# EAGLE library part ADS1115_16_BIT_ADC_4_CHANNEL_WITH_PROGRAMMABLE_GAIN_AMPLIFIER (library Adafruit)
ADS1115 16-Bit ADC - 4 Channel with Programmable Gain Amplifier ADS1115 16-Bit ADC - 4 Channel with Programmable Gain Amplifier Further information:http://adafru.it/1085 Cost:$14.95
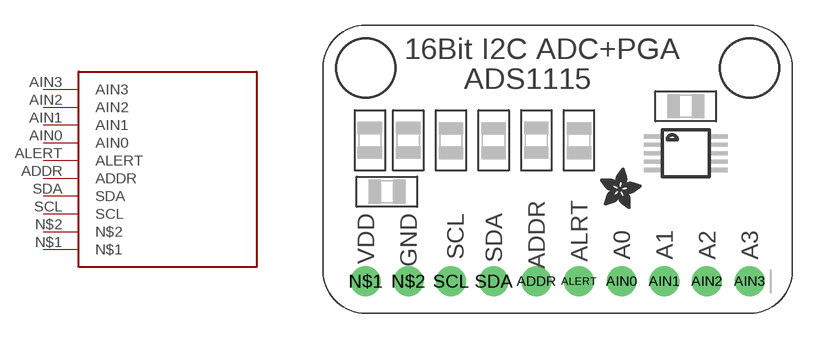
[diagram p6: symbol with the pads of ADS1115_16_BIT_ADC_4_CHANNEL_WITH_PROGRAMMABLE_GAIN_AMPLIFIER; footprint ADS1115_16_BIT_ADC_4_CHANNEL_WITH_PROGRAMMABLE_GAIN_AMPLIFIER]

Designator prefix -

## ADS1115_16_BIT_ADC_4_CHANNEL_WITH_PROGRAMMABLE_GAIN_AMPLIFIER-BOB  [ADS1115_16_BIT_ADC_4_CHANNEL_WITH_PROGRAMMABLE_GAIN_AMPLIFIER]
ADDR  ADDR
AIN0  AIN0
AIN1  AIN1
AIN2  AIN2
AIN3  AIN3
ALERT  ALERT
N$1  N$1
N$2  N$2
SCL  SCL
SDA  SDA

## Footprint ADS1115_16_BIT_ADC_4_CHANNEL_WITH_PROGRAMMABLE_GAIN_AMPLIFIER (pad centres in mm)
drill 1 pad 1.778: ADDR 12.7,1.778; AIN0 17.78,1.778; AIN1 20.32,1.778; AIN2 22.86,1.778; AIN3 25.4,1.778; ALERT 15.24,1.778; N$1 2.54,1.778; N$2 5.08,1.778; SCL 7.62,1.778; SDA 10.16,1.778